# EAGLE library part 929647-04-36-I (library 3M_By_element14_Batch_1)
Header
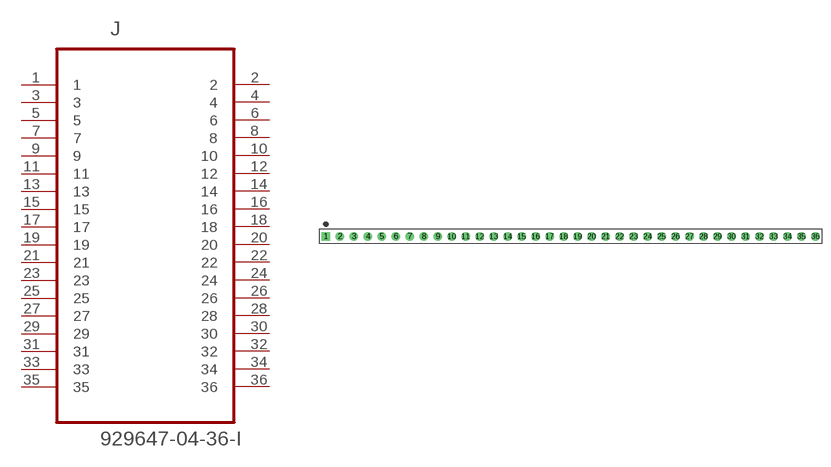
[diagram p75: symbol with the pads of 3M_929647-04-36-I; footprint 3M_929647-04-36-I]

Designator prefix J

## 929647-04-36-I (MPN: 929647-04-36-I; OC_FARNELL: 5394387; OC_NEWARK: 50H6861; PACKAGE: Header-36Pin; SUPPLIER: 3M)  [3M_929647-04-36-I]
1  1  pas
2  2  pas
3  3  pas
4  4  pas
5  5  pas
6  6  pas
7  7  pas
8  8  pas
9  9  pas
10  10  pas
11  11  pas
12  12  pas
13  13  pas
14  14  pas
15  15  pas
16  16  pas
17  17  pas
18  18  pas
19  19  pas
20  20  pas
21  21  pas
22  22  pas
23  23  pas
24  24  pas
25  25  pas
26  26  pas
27  27  pas
28  28  pas
29  29  pas
30  30  pas
31  31  pas
32  32  pas
33  33  pas
34  34  pas
35  35  pas
36  36  pas

## Footprint 3M_929647-04-36-I (pad centres in mm)
drill 1.016 square: 1 -88.9,0
drill 1.016: 2 -86.36,0; 3 -83.82,0; 4 -81.28,0; 5 -78.74,0; 6 -76.2,0; 7 -73.66,0; 8 -71.12,0; 9 -68.58,0; 10 -66.04,0; 11 -63.5,0; 12 -60.96,0; 13 -58.42,0; 14 -55.88,0; 15 -53.34,0; 16 -50.8,0; 17 -48.26,0; 18 -45.72,0; 19 -43.18,0; 20 -40.64,0; 21 -38.1,0; 22 -35.56,0; 23 -33.02,0; 24 -30.48,0; 25 -27.94,0; 26 -25.4,0; 27 -22.86,0; 28 -20.32,0; 29 -17.78,0; 30 -15.24,0; 31 -12.7,0; 32 -10.16,0; 33 -7.62,0; 34 -5.08,0; 35 -2.54,0; 36 0,0